# Altium schematic symbol library DSub.SchLib: 7 symbols
Pins are listed as number, name and electrical type; pins without a type are passive.

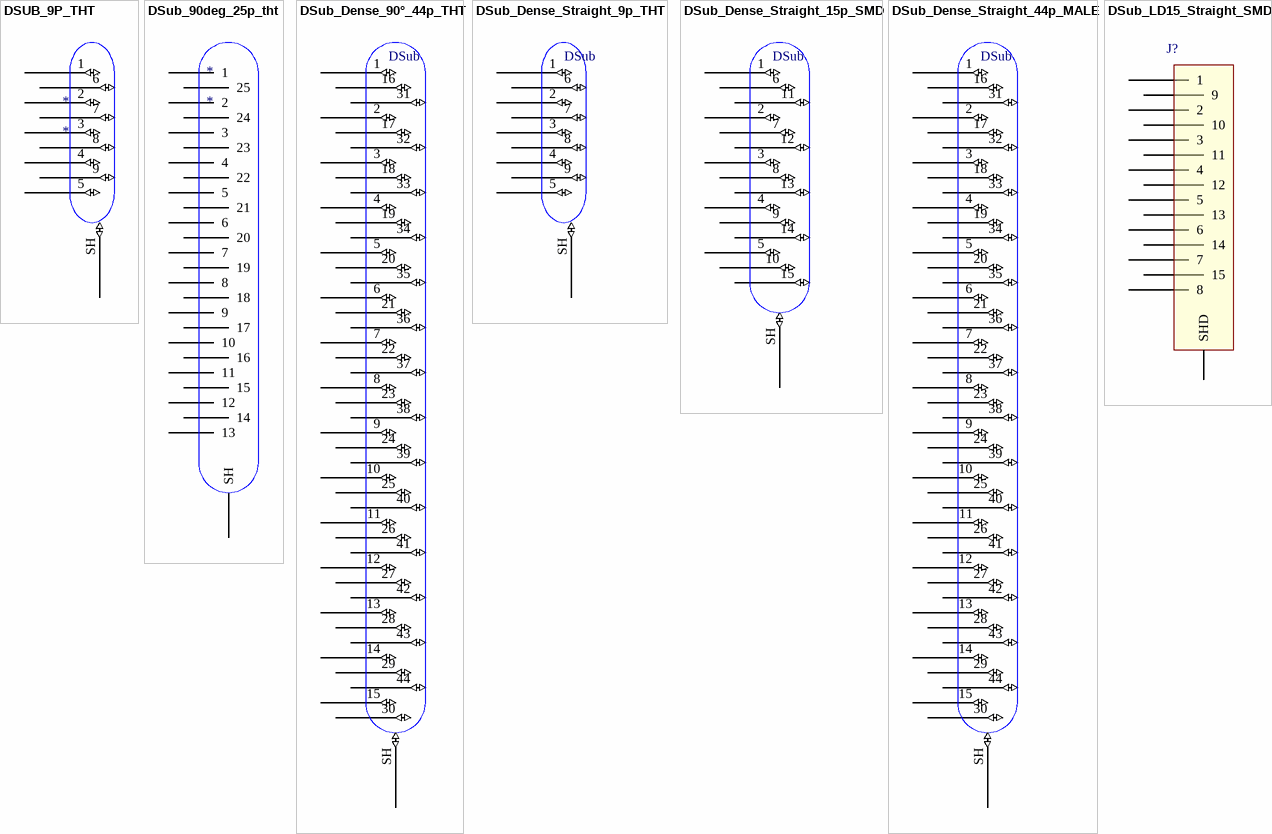
[diagram p0: symbols DSUB_9P_THT to DSub_LD15_Straight_SMD]

## DSUB_9P_THT
designator *
footprint DSUB_9P_STRAIGHT_THT - duplicate (09661117501)
pins: 1 (io), 2 (io), 3 (io), 4 (io), 5 (io), 6 (io), 7 (io), 8 (io), 9 (io), SH SHIELD (io)

## DSub_90deg_25p_tht
designator *
pins: 1, 2, 3, 4, 5, 6, 7, 8, 9, 10, 11, 12, 13, 14, 15, 16, 17, 18, 19, 20, 21, 22, 23, 24, 25, SH

## DSub_Dense_90°_44p_THT
designator DSub
DSub 90° 44p dense tht; Manufacturer: Harting; Partnumber: 09563527613
footprint DSub_44p_90° (Harting 09563527613)
pins: 1 (io), 2 (io), 3 (io), 4 (io), 5 (io), 6 (io), 7 (io), 8 (io), 9 (io), 10 (io), 11 (io), 12 (io), 13 (io), 14 (io), 15 (io), 16 (io), 17 (io), 18 (io), 19 (io), 20 (io), 21 (io), 22 (io), 23 (io), 24 (io), 25 (io), 26 (io), 27 (io), 28 (io), 29 (io), 30 (io), 31 (io), 32 (io), 33 (io), 34 (io), 35 (io), 36 (io), 37 (io), 38 (io), 39 (io), 40 (io), 41 (io), 42 (io), 43 (io), 44 (io), SH SHIELD (io)

## DSub_Dense_Straight_9p_THT
designator DSub, comment 9p straight tht  (value not drawn)
Manufacturer: Harting; Partnumber: 09651617713
footprint DSUB_9p_straight_tht (Harting 09651617713)
pins: 1 (io), 2 (io), 3 (io), 4 (io), 5 (io), 6 (io), 7 (io), 8 (io), 9 (io), SH SHIELD (io)

## DSub_Dense_Straight_15p_SMD
designator DSub  (value not drawn)
DSub straight 15pin dense tht; Manufacturer: Harting; Partnumber: 09561517513
footprint DSUB_15P_DENSE_STRAIGHT (Harting 09651617713)
pins: 1 (io), 2 (io), 3 (io), 4 (io), 5 (io), 6 (io), 7 (io), 8 (io), 9 (io), 10 (io), 11 (io), 12 (io), 13 (io), 14 (io), 15 (io), SH SHIELD (io)

## DSub_Dense_Straight_44p_MALE
designator DSub, comment 09563617713  (value not drawn)
DSub_Dense_Straight_44p_MALE; Manufacturer: Harting; Partnumber: 09563617713
footprint DSub_44p_Straight_MALE (Harting 09563517512)
pins: 1 (io), 2 (io), 3 (io), 4 (io), 5 (io), 6 (io), 7 (io), 8 (io), 9 (io), 10 (io), 11 (io), 12 (io), 13 (io), 14 (io), 15 (io), 16 (io), 17 (io), 18 (io), 19 (io), 20 (io), 21 (io), 22 (io), 23 (io), 24 (io), 25 (io), 26 (io), 27 (io), 28 (io), 29 (io), 30 (io), 31 (io), 32 (io), 33 (io), 34 (io), 35 (io), 36 (io), 37 (io), 38 (io), 39 (io), 40 (io), 41 (io), 42 (io), 43 (io), 44 (io), SH SHIELD (io)

## DSub_LD15_Straight_SMD
designator J?, comment DSUB 15 LD SMD  (value not drawn)
footprint 09552156612741 (CONN D-SUB RCPT 15POS SMD SOLDER)
pins: 1, 2, 3, 4, 5, 6, 7, 8, 9, 10, 11, 12, 13, 14, 15, 16 SHD